# Altium footprint library KF2EDGK.PcbLib: 86 footprints (part 2 of 6)
Each footprint in its own frame and in the unit in brackets; x right, y up, seen from the top. Pads: shape width x height; smd on the part's side, far side on the other; paste and mask are expansions set on the pad; w line width, h text height; cw(c..) or ccw(c..) is an arc to the next point about the centre after c.
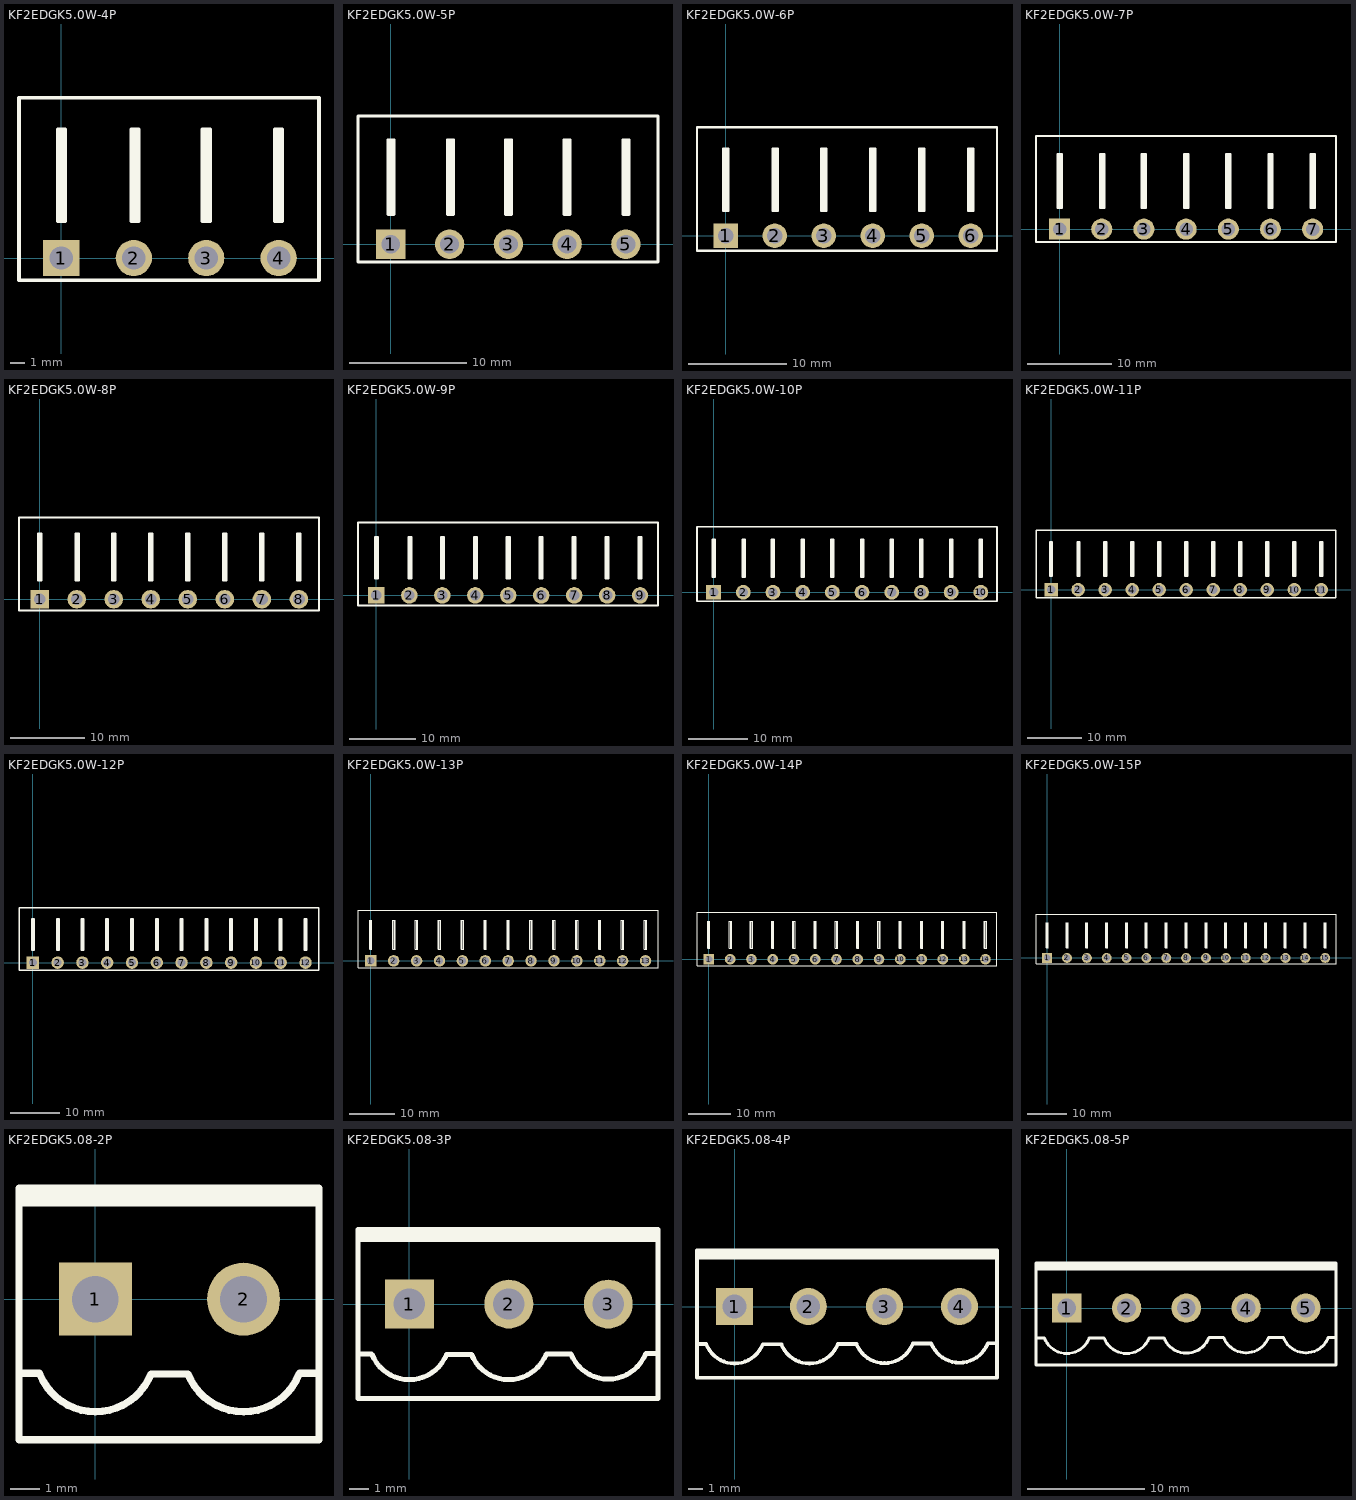
[diagram p1: the footprints below, top view; thin cyan lines are the x and y axes]

## KF2EDGK5.0W-4P [mm]
pads (4):
  rect 2.5x2.5 hole 1.6: 1(0,0)
  round 2.5 hole 1.6: 2(5,0) 3(10,0) 4(15,0)
Top Overlay:
  lines w0.254: 0,2.54 0,8.89 ; 5.08,2.54 5.08,8.89 ; 10,2.54 10,8.89 ; 15,2.54 15,8.89 ; 0,8.89 0.254,8.89 0.254,2.54 -0.254,2.54 -0.254,8.89 0,8.89 ; 5.08,8.89 5.334,8.89 5.334,2.54 4.826,2.54 4.826,8.89 5.08,8.89 ; 10,8.89 9.746,8.89 9.746,2.54 10.254,2.54 10.254,8.89 10,8.89 ; 15,8.89 15.254,8.89 15.254,2.54 14.746,2.54 14.746,8.89 15,8.89 ; -2.921,-1.524 17.78,-1.524 17.78,11.049 -2.921,11.049 -2.921,-1.524
3D body "KF2EDGK5.0-WI.STEP": height 8.5, standoff -3, extent 7.46,-0.57 12.54,10.73
3D body "KF2EDGK5.0-WI.STEP": height 8.5, standoff -3, extent -2.54,-0.57 2.54,10.73
3D body "KF2EDGK5.0-WI.STEP": height 8.5, standoff -3, extent 2.46,-0.57 7.54,10.73
3D body "KF2EDGK5.0-WI.STEP": height 8.5, standoff -3, extent 12.46,-0.57 17.54,10.73

## KF2EDGK5.0W-5P [mm]
pads (5):
  rect 2.5x2.5 hole 1.6: 1(0,0)
  round 2.5 hole 1.6: 2(5,0) 3(10,0) 4(15,0) 5(20,0)
Top Overlay:
  lines w0.254: 0,2.54 0,8.89 ; 5.08,2.54 5.08,8.89 ; 10,2.54 10,8.89 ; 15,2.54 15,8.89 ; 20,2.54 20,8.89 ; 0,8.89 -0.254,8.89 -0.254,2.54 0.254,2.54 0.254,8.89 0,8.89 ; 5.08,8.89 4.826,8.89 4.826,2.54 5.334,2.54 5.334,8.89 5.08,8.89 ; 10,8.89 10.254,8.89 10.254,2.54 9.746,2.54 9.746,8.89 10,8.89 ; 15,8.89 14.746,8.89 14.746,2.54 15.254,2.54 15.254,8.89 15,8.89 ; 20,8.89 20.254,8.89 20.254,2.54 19.746,2.54 19.746,8.89 20,8.89 ; -2.794,-1.524 -2.794,10.922 22.733,10.922 22.733,-1.524 -2.794,-1.524
3D body "KF2EDGK5.0-WI.STEP": height 8.5, standoff -3, extent 17.46,-0.57 22.54,10.73
3D body "KF2EDGK5.0-WI.STEP": height 8.5, standoff -3, extent 12.46,-0.57 17.54,10.73
3D body "KF2EDGK5.0-WI.STEP": height 8.5, standoff -3, extent 2.46,-0.57 7.54,10.73
3D body "KF2EDGK5.0-WI.STEP": height 8.5, standoff -3, extent -2.54,-0.57 2.54,10.73
3D body "KF2EDGK5.0-WI.STEP": height 8.5, standoff -3, extent 7.46,-0.57 12.54,10.73

## KF2EDGK5.0W-6P [mm]
pads (6):
  rect 2.5x2.5 hole 1.6: 1(0,0)
  round 2.5 hole 1.6: 2(5,0) 3(10,0) 4(15,0) 5(20,0) 6(25,0)
Top Overlay:
  lines w0.254: 0,2.54 0,8.89 ; 5.08,2.54 5.08,8.89 ; 10,2.54 10,8.89 ; 15,2.54 15,8.89 ; 20,2.54 20,8.89 ; 25,2.54 25,8.89 ; 0,8.89 0.254,8.89 0.254,2.54 -0.254,2.54 -0.254,8.89 0,8.89 ; 5.08,8.89 5.334,8.89 5.334,2.54 4.826,2.54 4.826,8.89 5.08,8.89 ; 10,8.89 9.746,8.89 9.746,2.54 10.254,2.54 10.254,8.89 10,8.89 ; 15,8.89 15.254,8.89 15.254,2.54 14.746,2.54 14.746,8.89 15,8.89 ; 20,8.89 19.746,8.89 19.746,2.54 20.254,2.54 20.254,8.89 20,8.89 ; 25,8.89 25.254,8.89 25.254,2.54 24.746,2.54 24.746,8.89 25,8.89 ; -2.921,-1.524 27.686,-1.524 27.686,11.049 -2.921,11.049 -2.921,-1.524
3D body "KF2EDGK5.0-WI.STEP": height 8.5, standoff -3, extent 17.46,-0.57 22.54,10.73
3D body "KF2EDGK5.0-WI.STEP": height 8.5, standoff -3, extent 12.46,-0.57 17.54,10.73
3D body "KF2EDGK5.0-WI.STEP": height 8.5, standoff -3, extent 22.46,-0.57 27.54,10.73
3D body "KF2EDGK5.0-WI.STEP": height 8.5, standoff -3, extent 2.46,-0.57 7.54,10.73
3D body "KF2EDGK5.0-WI.STEP": height 8.5, standoff -3, extent -2.54,-0.57 2.54,10.73
3D body "KF2EDGK5.0-WI.STEP": height 8.5, standoff -3, extent 7.46,-0.57 12.54,10.73

## KF2EDGK5.0W-7P [mm]
pads (7):
  rect 2.5x2.5 hole 1.6: 1(0,0)
  round 2.5 hole 1.6: 2(5,0) 3(10,0) 4(15,0) 5(20,0) 6(25,0) 7(30,0)
Top Overlay:
  lines w0.254: 0,2.54 0,8.89 ; 5.08,2.54 5.08,8.89 ; 10,2.54 10,8.89 ; 15,2.54 15,8.89 ; 20,2.54 20,8.89 ; 25,2.54 25,8.89 ; 30,2.54 30,8.89 ; 0,8.89 -0.254,8.89 -0.254,2.54 0.254,2.54 0.254,8.89 0,8.89 ; 5.08,8.89 4.826,8.89 4.826,2.54 5.334,2.54 5.334,8.89 5.08,8.89 ; 10,8.89 10.254,8.89 10.254,2.54 9.746,2.54 9.746,8.89 10,8.89 ; 15,8.89 14.746,8.89 14.746,2.54 15.254,2.54 15.254,8.89 15,8.89 ; 20,8.89 20.254,8.89 20.254,2.54 19.746,2.54 19.746,8.89 20,8.89 ; 25,8.89 24.746,8.89 24.746,2.54 25.254,2.54 25.254,8.89 25,8.89 ; 30,8.89 30.254,8.89 30.254,2.54 29.746,2.54 29.746,8.89 30,8.89 ; -2.794,-1.524 -2.794,11.049 32.766,11.049 32.766,-1.524 -2.794,-1.524
3D body "KF2EDGK5.0-WI.STEP": height 8.5, standoff -3, extent 7.46,-0.57 12.54,10.73
3D body "KF2EDGK5.0-WI.STEP": height 8.5, standoff -3, extent -2.54,-0.57 2.54,10.73
3D body "KF2EDGK5.0-WI.STEP": height 8.5, standoff -3, extent 2.46,-0.57 7.54,10.73
3D body "KF2EDGK5.0-WI.STEP": height 8.5, standoff -3, extent 22.46,-0.57 27.54,10.73
3D body "KF2EDGK5.0-WI.STEP": height 8.5, standoff -3, extent 12.46,-0.57 17.54,10.73
3D body "KF2EDGK5.0-WI.STEP": height 8.5, standoff -3, extent 17.46,-0.57 22.54,10.73
3D body "KF2EDGK5.0-WI.STEP": height 8.5, standoff -3, extent 27.46,-0.57 32.54,10.73

## KF2EDGK5.0W-8P [mm]
pads (8):
  rect 2.5x2.5 hole 1.6: 1(0,0)
  round 2.5 hole 1.6: 2(5,0) 3(10,0) 4(15,0) 5(20,0) 6(25,0) 7(30,0) 8(35,0)
Top Overlay:
  lines w0.254: 0,2.54 0,8.89 ; 5.08,2.54 5.08,8.89 ; 10,2.54 10,8.89 ; 15,2.54 15,8.89 ; 20,2.54 20,8.89 ; 25,2.54 25,8.89 ; 30,2.54 30,8.89 ; 35,2.54 35,8.89 ; 0,8.89 0.254,8.89 0.254,2.54 -0.254,2.54 -0.254,8.89 0,8.89 ; 5.08,8.89 5.334,8.89 5.334,2.54 4.826,2.54 4.826,8.89 5.08,8.89 ; 10,8.89 9.746,8.89 9.746,2.54 10.254,2.54 10.254,8.89 10,8.89 ; 15,8.89 15.254,8.89 15.254,2.54 14.746,2.54 14.746,8.89 15,8.89 ; 20,8.89 19.746,8.89 19.746,2.54 20.254,2.54 20.254,8.89 20,8.89 ; 25,8.89 25.254,8.89 25.254,2.54 24.746,2.54 24.746,8.89 25,8.89 ; 30,8.89 29.746,8.89 29.746,2.54 30.254,2.54 30.254,8.89 30,8.89 ; 35,8.89 35.254,8.89 35.254,2.54 34.746,2.54 34.746,8.89 35,8.89 ; -2.794,-1.524 37.719,-1.524 37.719,11.049 -2.794,11.049 -2.794,-1.524
3D body "KF2EDGK5.0-WI.STEP": height 8.5, standoff -3, extent 7.46,-0.57 12.54,10.73
3D body "KF2EDGK5.0-WI.STEP": height 8.5, standoff -3, extent -2.54,-0.57 2.54,10.73
3D body "KF2EDGK5.0-WI.STEP": height 8.5, standoff -3, extent 2.46,-0.57 7.54,10.73
3D body "KF2EDGK5.0-WI.STEP": height 8.5, standoff -3, extent 22.46,-0.57 27.54,10.73
3D body "KF2EDGK5.0-WI.STEP": height 8.5, standoff -3, extent 12.46,-0.57 17.54,10.73
3D body "KF2EDGK5.0-WI.STEP": height 8.5, standoff -3, extent 17.46,-0.57 22.54,10.73
3D body "KF2EDGK5.0-WI.STEP": height 8.5, standoff -3, extent 27.46,-0.57 32.54,10.73
3D body "KF2EDGK5.0-WI.STEP": height 8.5, standoff -3, extent 32.46,-0.57 37.54,10.73

## KF2EDGK5.0W-9P [mm]
pads (9):
  rect 2.5x2.5 hole 1.6: 1(0,0)
  round 2.5 hole 1.6: 2(5,0) 3(10,0) 4(15,0) 5(20,0) 6(25,0) 7(30,0) 8(35,0) 9(40,0)
Top Overlay:
  lines w0.254: 0,2.54 0,8.89 ; 5.08,2.54 5.08,8.89 ; 10,2.54 10,8.89 ; 15,2.54 15,8.89 ; 20,2.54 20,8.89 ; 25,2.54 25,8.89 ; 30,2.54 30,8.89 ; 35,2.54 35,8.89 ; 40,2.54 40,8.89 ; 0,8.89 -0.254,8.89 -0.254,2.54 0.254,2.54 0.254,8.89 0,8.89 ; 5.08,8.89 4.826,8.89 4.826,2.54 5.334,2.54 5.334,8.89 5.08,8.89 ; 10,8.89 10.254,8.89 10.254,2.54 9.746,2.54 9.746,8.89 10,8.89 ; 15,8.89 14.746,8.89 14.746,2.54 15.254,2.54 15.254,8.89 15,8.89 ; 20,8.89 20.254,8.89 20.254,2.54 19.746,2.54 19.746,8.89 20,8.89 ; 25,8.89 24.746,8.89 24.746,2.54 25.254,2.54 25.254,8.89 25,8.89 ; 30,8.89 30.254,8.89 30.254,2.54 29.746,2.54 29.746,8.89 30,8.89 ; 35,8.89 34.746,8.89 34.746,2.54 35.254,2.54 35.254,8.89 35,8.89 ; 40,8.89 40.254,8.89 40.254,2.54 39.746,2.54 39.746,8.89 40,8.89 ; -2.794,-1.524 -2.794,11.049 37.719,11.049 42.719,11.049 42.719,-1.524 37.719,-1.524 -2.794,-1.524
3D body "KF2EDGK5.0-WI.STEP": height 8.5, standoff -3, extent 7.46,-0.57 12.54,10.73
3D body "KF2EDGK5.0-WI.STEP": height 8.5, standoff -3, extent -2.54,-0.57 2.54,10.73
3D body "KF2EDGK5.0-WI.STEP": height 8.5, standoff -3, extent 2.46,-0.57 7.54,10.73
3D body "KF2EDGK5.0-WI.STEP": height 8.5, standoff -3, extent 22.46,-0.57 27.54,10.73
3D body "KF2EDGK5.0-WI.STEP": height 8.5, standoff -3, extent 12.46,-0.57 17.54,10.73
3D body "KF2EDGK5.0-WI.STEP": height 8.5, standoff -3, extent 17.46,-0.57 22.54,10.73
3D body "KF2EDGK5.0-WI.STEP": height 8.5, standoff -3, extent 37.46,-0.57 42.54,10.73
3D body "KF2EDGK5.0-WI.STEP": height 8.5, standoff -3, extent 27.46,-0.57 32.54,10.73
3D body "KF2EDGK5.0-WI.STEP": height 8.5, standoff -3, extent 32.46,-0.57 37.54,10.73

## KF2EDGK5.0W-10P [mm]
pads (10):
  rect 2.5x2.5 hole 1.6: 1(0,0)
  round 2.5 hole 1.6: 2(5,0) 3(10,0) 4(15,0) 5(20,0) 6(25,0) 7(30,0) 8(35,0) 9(40,0) 10(45,0)
Top Overlay:
  lines w0.254: 0,2.54 0,8.89 ; 5.08,2.54 5.08,8.89 ; 10,2.54 10,8.89 ; 15,2.54 15,8.89 ; 20,2.54 20,8.89 ; 25,2.54 25,8.89 ; 30,2.54 30,8.89 ; 35,2.54 35,8.89 ; 40,2.54 40,8.89 ; 45,2.54 45,8.89 ; 0,8.89 0.254,8.89 0.254,2.54 -0.254,2.54 -0.254,8.89 0,8.89 ; 5.08,8.89 5.334,8.89 5.334,2.54 4.826,2.54 4.826,8.89 5.08,8.89 ; 10,8.89 9.746,8.89 9.746,2.54 10.254,2.54 10.254,8.89 10,8.89 ; 15,8.89 15.254,8.89 15.254,2.54 14.746,2.54 14.746,8.89 15,8.89 ; 20,8.89 19.746,8.89 19.746,2.54 20.254,2.54 20.254,8.89 20,8.89 ; 25,8.89 25.254,8.89 25.254,2.54 24.746,2.54 24.746,8.89 25,8.89 ; 30,8.89 29.746,8.89 29.746,2.54 30.254,2.54 30.254,8.89 30,8.89 ; 35,8.89 35.254,8.89 35.254,2.54 34.746,2.54 34.746,8.89 35,8.89 ; 40,8.89 39.746,8.89 39.746,2.54 40.254,2.54 40.254,8.89 40,8.89 ; 45,8.89 45.254,8.89 45.254,2.54 44.746,2.54 44.746,8.89 45,8.89 ; -2.794,-1.524 37.719,-1.524 42.719,-1.524 47.719,-1.524 47.719,11.049 42.719,11.049 37.719,11.049 -2.794,11.049 -2.794,-1.524
3D body "KF2EDGK5.0-WI.STEP": height 8.5, standoff -3, extent 42.46,-0.57 47.54,10.73
3D body "KF2EDGK5.0-WI.STEP": height 8.5, standoff -3, extent 32.46,-0.57 37.54,10.73
3D body "KF2EDGK5.0-WI.STEP": height 8.5, standoff -3, extent 27.46,-0.57 32.54,10.73
3D body "KF2EDGK5.0-WI.STEP": height 8.5, standoff -3, extent 37.46,-0.57 42.54,10.73
3D body "KF2EDGK5.0-WI.STEP": height 8.5, standoff -3, extent 17.46,-0.57 22.54,10.73
3D body "KF2EDGK5.0-WI.STEP": height 8.5, standoff -3, extent 12.46,-0.57 17.54,10.73
3D body "KF2EDGK5.0-WI.STEP": height 8.5, standoff -3, extent 22.46,-0.57 27.54,10.73
3D body "KF2EDGK5.0-WI.STEP": height 8.5, standoff -3, extent 2.46,-0.57 7.54,10.73
3D body "KF2EDGK5.0-WI.STEP": height 8.5, standoff -3, extent -2.54,-0.57 2.54,10.73
3D body "KF2EDGK5.0-WI.STEP": height 8.5, standoff -3, extent 7.46,-0.57 12.54,10.73

## KF2EDGK5.0W-11P [mm]
pads (11):
  rect 2.5x2.5 hole 1.6: 1(0,0)
  round 2.5 hole 1.6: 2(5,0) 3(10,0) 4(15,0) 5(20,0) 6(25,0) 7(30,0) 8(35,0) 9(40,0) 10(45,0) 11(50,0)
Top Overlay:
  lines w0.254: 0,2.54 0,8.89 ; 5.08,2.54 5.08,8.89 ; 10,2.54 10,8.89 ; 15,2.54 15,8.89 ; 20,2.54 20,8.89 ; 25,2.54 25,8.89 ; 30,2.54 30,8.89 ; 35,2.54 35,8.89 ; 40,2.54 40,8.89 ; 45,2.54 45,8.89 ; 50,2.54 50,8.89 ; 0,8.89 -0.254,8.89 -0.254,2.54 0.254,2.54 0.254,8.89 0,8.89 ; 5.08,8.89 4.826,8.89 4.826,2.54 5.334,2.54 5.334,8.89 5.08,8.89 ; 10,8.89 10.254,8.89 10.254,2.54 9.746,2.54 9.746,8.89 10,8.89 ; 15,8.89 14.746,8.89 14.746,2.54 15.254,2.54 15.254,8.89 15,8.89 ; 20,8.89 20.254,8.89 20.254,2.54 19.746,2.54 19.746,8.89 20,8.89 ; 25,8.89 24.746,8.89 24.746,2.54 25.254,2.54 25.254,8.89 25,8.89 ; 30,8.89 30.254,8.89 30.254,2.54 29.746,2.54 29.746,8.89 30,8.89 ; 35,8.89 34.746,8.89 34.746,2.54 35.254,2.54 35.254,8.89 35,8.89 ; 40,8.89 40.254,8.89 40.254,2.54 39.746,2.54 39.746,8.89 40,8.89 ; 45,8.89 44.746,8.89 44.746,2.54 45.254,2.54 45.254,8.89 45,8.89 ; 50,8.89 50.254,8.89 50.254,2.54 49.746,2.54 49.746,8.89 50,8.89 ; -2.794,-1.524 -2.794,11.049 37.719,11.049 42.719,11.049 47.719,11.049 52.719,11.049 52.719,-1.524 47.719,-1.524 42.719,-1.524 37.719,-1.524 -2.794,-1.524
3D body "KF2EDGK5.0-WI.STEP": height 8.5, standoff -3, extent 7.46,-0.57 12.54,10.73
3D body "KF2EDGK5.0-WI.STEP": height 8.5, standoff -3, extent -2.54,-0.57 2.54,10.73
3D body "KF2EDGK5.0-WI.STEP": height 8.5, standoff -3, extent 2.46,-0.57 7.54,10.73
3D body "KF2EDGK5.0-WI.STEP": height 8.5, standoff -3, extent 22.46,-0.57 27.54,10.73
3D body "KF2EDGK5.0-WI.STEP": height 8.5, standoff -3, extent 12.46,-0.57 17.54,10.73
3D body "KF2EDGK5.0-WI.STEP": height 8.5, standoff -3, extent 17.46,-0.57 22.54,10.73
3D body "KF2EDGK5.0-WI.STEP": height 8.5, standoff -3, extent 37.46,-0.57 42.54,10.73
3D body "KF2EDGK5.0-WI.STEP": height 8.5, standoff -3, extent 27.46,-0.57 32.54,10.73
3D body "KF2EDGK5.0-WI.STEP": height 8.5, standoff -3, extent 32.46,-0.57 37.54,10.73
3D body "KF2EDGK5.0-WI.STEP": height 8.5, standoff -3, extent 42.46,-0.57 47.54,10.73
3D body "KF2EDGK5.0-WI.STEP": height 8.5, standoff -3, extent 47.46,-0.57 52.54,10.73

## KF2EDGK5.0W-12P [mm]
pads (12):
  rect 2.5x2.5 hole 1.6: 1(0,0)
  round 2.5 hole 1.6: 2(5,0) 3(10,0) 4(15,0) 5(20,0) 6(25,0) 7(30,0) 8(35,0) 9(40,0) 10(45,0) 11(50,0) 12(55,0)
Top Overlay:
  lines w0.254: 0,2.54 0,8.89 ; 5.08,2.54 5.08,8.89 ; 10,2.54 10,8.89 ; 15,2.54 15,8.89 ; 20,2.54 20,8.89 ; 25,2.54 25,8.89 ; 30,2.54 30,8.89 ; 35,2.54 35,8.89 ; 40,2.54 40,8.89 ; 45,2.54 45,8.89 ; 50,2.54 50,8.89 ; 55,2.54 55,8.89 ; 0,8.89 -0.254,8.89 -0.254,2.54 0.254,2.54 0.254,8.89 0,8.89 ; 5.08,8.89 4.826,8.89 4.826,2.54 5.334,2.54 5.334,8.89 5.08,8.89 ; 10,8.89 10.254,8.89 10.254,2.54 9.746,2.54 9.746,8.89 10,8.89 ; 15,8.89 14.746,8.89 14.746,2.54 15.254,2.54 15.254,8.89 15,8.89 ; 20,8.89 20.254,8.89 20.254,2.54 19.746,2.54 19.746,8.89 20,8.89 ; 25,8.89 24.746,8.89 24.746,2.54 25.254,2.54 25.254,8.89 25,8.89 ; 30,8.89 30.254,8.89 30.254,2.54 29.746,2.54 29.746,8.89 30,8.89 ; 35,8.89 34.746,8.89 34.746,2.54 35.254,2.54 35.254,8.89 35,8.89 ; 40,8.89 40.254,8.89 40.254,2.54 39.746,2.54 39.746,8.89 40,8.89 ; 45,8.89 44.746,8.89 44.746,2.54 45.254,2.54 45.254,8.89 45,8.89 ; 50,8.89 50.254,8.89 50.254,2.54 49.746,2.54 49.746,8.89 50,8.89 ; 55,8.89 54.746,8.89 54.746,2.54 55.254,2.54 55.254,8.89 55,8.89 ; -2.794,-1.524 -2.794,11.049 37.719,11.049 42.719,11.049 47.719,11.049 52.719,11.049 57.719,11.049 57.719,-1.524 52.719,-1.524 47.719,-1.524 42.719,-1.524 37.719,-1.524 -2.794,-1.524
3D body "KF2EDGK5.0-WI.STEP": height 8.5, standoff -3, extent 7.46,-0.57 12.54,10.73
3D body "KF2EDGK5.0-WI.STEP": height 8.5, standoff -3, extent -2.54,-0.57 2.54,10.73
3D body "KF2EDGK5.0-WI.STEP": height 8.5, standoff -3, extent 2.46,-0.57 7.54,10.73
3D body "KF2EDGK5.0-WI.STEP": height 8.5, standoff -3, extent 22.46,-0.57 27.54,10.73
3D body "KF2EDGK5.0-WI.STEP": height 8.5, standoff -3, extent 12.46,-0.57 17.54,10.73
3D body "KF2EDGK5.0-WI.STEP": height 8.5, standoff -3, extent 17.46,-0.57 22.54,10.73
3D body "KF2EDGK5.0-WI.STEP": height 8.5, standoff -3, extent 37.46,-0.57 42.54,10.73
3D body "KF2EDGK5.0-WI.STEP": height 8.5, standoff -3, extent 27.46,-0.57 32.54,10.73
3D body "KF2EDGK5.0-WI.STEP": height 8.5, standoff -3, extent 32.46,-0.57 37.54,10.73
3D body "KF2EDGK5.0-WI.STEP": height 8.5, standoff -3, extent 52.46,-0.57 57.54,10.73
3D body "KF2EDGK5.0-WI.STEP": height 8.5, standoff -3, extent 42.46,-0.57 47.54,10.73
3D body "KF2EDGK5.0-WI.STEP": height 8.5, standoff -3, extent 47.46,-0.57 52.54,10.73

## KF2EDGK5.0W-13P [mm]
pads (13):
  rect 2.5x2.5 hole 1.6: 1(0,0)
  round 2.5 hole 1.6: 2(5,0) 3(10,0) 4(15,0) 5(20,0) 6(25,0) 7(30,0) 8(35,0) 9(40,0) 10(45,0) 11(50,0) 12(55,0) 13(60,0)
Top Overlay:
  lines w0.254: 0,2.54 0,8.89 ; 5.08,2.54 5.08,8.89 ; 10,2.54 10,8.89 ; 15,2.54 15,8.89 ; 20,2.54 20,8.89 ; 25,2.54 25,8.89 ; 30,2.54 30,8.89 ; 35,2.54 35,8.89 ; 40,2.54 40,8.89 ; 45,2.54 45,8.89 ; 50,2.54 50,8.89 ; 55,2.54 55,8.89 ; 60,2.54 60,8.89 ; 0,8.89 -0.254,8.89 -0.254,2.54 0.254,2.54 0.254,8.89 0,8.89 ; 5.08,8.89 4.826,8.89 4.826,2.54 5.334,2.54 5.334,8.89 5.08,8.89 ; 10,8.89 10.254,8.89 10.254,2.54 9.746,2.54 9.746,8.89 10,8.89 ; 15,8.89 14.746,8.89 14.746,2.54 15.254,2.54 15.254,8.89 15,8.89 ; 20,8.89 20.254,8.89 20.254,2.54 19.746,2.54 19.746,8.89 20,8.89 ; 25,8.89 24.746,8.89 24.746,2.54 25.254,2.54 25.254,8.89 25,8.89 ; 30,8.89 30.254,8.89 30.254,2.54 29.746,2.54 29.746,8.89 30,8.89 ; 35,8.89 34.746,8.89 34.746,2.54 35.254,2.54 35.254,8.89 35,8.89 ; 40,8.89 40.254,8.89 40.254,2.54 39.746,2.54 39.746,8.89 40,8.89 ; 45,8.89 44.746,8.89 44.746,2.54 45.254,2.54 45.254,8.89 45,8.89 ; 50,8.89 50.254,8.89 50.254,2.54 49.746,2.54 49.746,8.89 50,8.89 ; 55,8.89 54.746,8.89 54.746,2.54 55.254,2.54 ; 55,8.89 55.254,8.89 ; 55.254,2.54 55.254,8.89 ; 55.254,2.54 55.254,8.89 ; 60,8.89 60.254,8.89 60.254,2.54 59.746,2.54 59.746,8.89 60,8.89 ; -2.794,-1.524 -2.794,11.049 37.719,11.049 42.719,11.049 47.719,11.049 52.719,11.049 57.719,11.049 62.719,11.049 62.719,-1.524 57.719,-1.524 52.719,-1.524 47.719,-1.524 42.719,-1.524 37.719,-1.524 -2.794,-1.524
3D body "KF2EDGK5.0-WI.STEP": height 8.5, standoff -3, extent 57.46,-0.57 62.54,10.73
3D body "KF2EDGK5.0-WI.STEP": height 8.5, standoff -3, extent 47.46,-0.57 52.54,10.73
3D body "KF2EDGK5.0-WI.STEP": height 8.5, standoff -3, extent 42.46,-0.57 47.54,10.73
3D body "KF2EDGK5.0-WI.STEP": height 8.5, standoff -3, extent 52.46,-0.57 57.54,10.73
3D body "KF2EDGK5.0-WI.STEP": height 8.5, standoff -3, extent 32.46,-0.57 37.54,10.73
3D body "KF2EDGK5.0-WI.STEP": height 8.5, standoff -3, extent 27.46,-0.57 32.54,10.73
3D body "KF2EDGK5.0-WI.STEP": height 8.5, standoff -3, extent 37.46,-0.57 42.54,10.73
3D body "KF2EDGK5.0-WI.STEP": height 8.5, standoff -3, extent 17.46,-0.57 22.54,10.73
3D body "KF2EDGK5.0-WI.STEP": height 8.5, standoff -3, extent 12.46,-0.57 17.54,10.73
3D body "KF2EDGK5.0-WI.STEP": height 8.5, standoff -3, extent 22.46,-0.57 27.54,10.73
3D body "KF2EDGK5.0-WI.STEP": height 8.5, standoff -3, extent 2.46,-0.57 7.54,10.73
3D body "KF2EDGK5.0-WI.STEP": height 8.5, standoff -3, extent -2.54,-0.57 2.54,10.73
3D body "KF2EDGK5.0-WI.STEP": height 8.5, standoff -3, extent 7.46,-0.57 12.54,10.73

## KF2EDGK5.0W-14P [mm]
pads (14):
  rect 2.5x2.5 hole 1.6: 1(0,0)
  round 2.5 hole 1.6: 2(5,0) 3(10,0) 4(15,0) 5(20,0) 6(25,0) 7(30,0) 8(35,0) 9(40,0) 10(45,0) 11(50,0) 12(55,0) 13(60,0) 14(65,0)
Top Overlay:
  lines w0.254: 0,2.54 0,8.89 ; 5.08,2.54 5.08,8.89 ; 10,2.54 10,8.89 ; 15,2.54 15,8.89 ; 20,2.54 20,8.89 ; 25,2.54 25,8.89 ; 30,2.54 30,8.89 ; 35,2.54 35,8.89 ; 40,2.54 40,8.89 ; 45,2.54 45,8.89 ; 50,2.54 50,8.89 ; 55,2.54 55,8.89 ; 60,2.54 60,8.89 ; 65,2.54 65,8.89 ; 0,8.89 0.254,8.89 0.254,2.54 -0.254,2.54 -0.254,8.89 0,8.89 ; 5.08,8.89 5.334,8.89 5.334,2.54 4.826,2.54 4.826,8.89 5.08,8.89 ; 10,8.89 9.746,8.89 9.746,2.54 10.254,2.54 10.254,8.89 10,8.89 ; 15,8.89 15.254,8.89 15.254,2.54 14.746,2.54 14.746,8.89 15,8.89 ; 20,8.89 19.746,8.89 19.746,2.54 20.254,2.54 20.254,8.89 20,8.89 ; 25,8.89 25.254,8.89 25.254,2.54 24.746,2.54 24.746,8.89 25,8.89 ; 30,8.89 29.746,8.89 29.746,2.54 30.254,2.54 30.254,8.89 30,8.89 ; 35,8.89 35.254,8.89 35.254,2.54 34.746,2.54 34.746,8.89 35,8.89 ; 40,8.89 39.746,8.89 39.746,2.54 40.254,2.54 40.254,8.89 40,8.89 ; 45,8.89 45.254,8.89 45.254,2.54 44.746,2.54 44.746,8.89 45,8.89 ; 50,8.89 49.746,8.89 49.746,2.54 50.254,2.54 50.254,8.89 50,8.89 ; 55,8.89 55.254,8.89 ; 55,8.89 54.746,8.89 54.746,2.54 55.254,2.54 ; 55.254,2.54 55.254,8.89 ; 55.254,2.54 55.254,8.89 ; 60,8.89 59.746,8.89 59.746,2.54 60.254,2.54 60.254,8.89 60,8.89 ; 65,8.89 65.254,8.89 65.254,2.54 64.746,2.54 64.746,8.89 65,8.89 ; -2.794,-1.524 37.719,-1.524 42.719,-1.524 47.719,-1.524 52.719,-1.524 57.719,-1.524 62.719,-1.524 67.719,-1.524 67.719,11.049 62.719,11.049 57.719,11.049 52.719,11.049 47.719,11.049 42.719,11.049 37.719,11.049 -2.794,11.049 -2.794,-1.524
3D body "KF2EDGK5.0-WI.STEP": height 8.5, standoff -3, extent 7.46,-0.57 12.54,10.73
3D body "KF2EDGK5.0-WI.STEP": height 8.5, standoff -3, extent -2.54,-0.57 2.54,10.73
3D body "KF2EDGK5.0-WI.STEP": height 8.5, standoff -3, extent 2.46,-0.57 7.54,10.73
3D body "KF2EDGK5.0-WI.STEP": height 8.5, standoff -3, extent 22.46,-0.57 27.54,10.73
3D body "KF2EDGK5.0-WI.STEP": height 8.5, standoff -3, extent 12.46,-0.57 17.54,10.73
3D body "KF2EDGK5.0-WI.STEP": height 8.5, standoff -3, extent 17.46,-0.57 22.54,10.73
3D body "KF2EDGK5.0-WI.STEP": height 8.5, standoff -3, extent 37.46,-0.57 42.54,10.73
3D body "KF2EDGK5.0-WI.STEP": height 8.5, standoff -3, extent 27.46,-0.57 32.54,10.73
3D body "KF2EDGK5.0-WI.STEP": height 8.5, standoff -3, extent 32.46,-0.57 37.54,10.73
3D body "KF2EDGK5.0-WI.STEP": height 8.5, standoff -3, extent 52.46,-0.57 57.54,10.73
3D body "KF2EDGK5.0-WI.STEP": height 8.5, standoff -3, extent 42.46,-0.57 47.54,10.73
3D body "KF2EDGK5.0-WI.STEP": height 8.5, standoff -3, extent 47.46,-0.57 52.54,10.73
3D body "KF2EDGK5.0-WI.STEP": height 8.5, standoff -3, extent 57.46,-0.57 62.54,10.73
3D body "KF2EDGK5.0-WI.STEP": height 8.5, standoff -3, extent 62.46,-0.57 67.54,10.73

## KF2EDGK5.0W-15P [mm]
pads (15):
  rect 2.5x2.5 hole 1.6: 1(0,0)
  round 2.5 hole 1.6: 2(5,0) 3(10,0) 4(15,0) 5(20,0) 6(25,0) 7(30,0) 8(35,0) 9(40,0) 10(45,0) 11(50,0) 12(55,0) 13(60,0) 14(65,0) 15(70,0)
Top Overlay:
  lines w0.254: 0,2.54 0,8.89 ; 5.08,2.54 5.08,8.89 ; 10,2.54 10,8.89 ; 15,2.54 15,8.89 ; 20,2.54 20,8.89 ; 25,2.54 25,8.89 ; 30,2.54 30,8.89 ; 35,2.54 35,8.89 ; 40,2.54 40,8.89 ; 45,2.54 45,8.89 ; 50,2.54 50,8.89 ; 55,2.54 55,8.89 ; 60,2.54 60,8.89 ; 65,2.54 65,8.89 ; 70,2.54 70,8.89 ; 0,8.89 0.254,8.89 0.254,2.54 -0.254,2.54 -0.254,8.89 0,8.89 ; 5.08,8.89 5.334,8.89 5.334,2.54 4.826,2.54 4.826,8.89 5.08,8.89 ; 10,8.89 9.746,8.89 9.746,2.54 10.254,2.54 10.254,8.89 10,8.89 ; 15,8.89 15.254,8.89 15.254,2.54 14.746,2.54 14.746,8.89 15,8.89 ; 20,8.89 19.746,8.89 19.746,2.54 20.254,2.54 20.254,8.89 20,8.89 ; 25,8.89 25.254,8.89 25.254,2.54 24.746,2.54 24.746,8.89 25,8.89 ; 30,8.89 29.746,8.89 29.746,2.54 30.254,2.54 30.254,8.89 30,8.89 ; 35,8.89 35.254,8.89 35.254,2.54 34.746,2.54 34.746,8.89 35,8.89 ; 40,8.89 39.746,8.89 39.746,2.54 40.254,2.54 40.254,8.89 40,8.89 ; 45,8.89 45.254,8.89 45.254,2.54 44.746,2.54 44.746,8.89 45,8.89 ; 50,8.89 49.746,8.89 49.746,2.54 50.254,2.54 50.254,8.89 50,8.89 ; 55,8.89 55.254,8.89 ; 55,8.89 54.746,8.89 54.746,2.54 55.254,2.54 ; 55.254,2.54 55.254,8.89 ; 55.254,2.54 55.254,8.89 ; 60,8.89 59.746,8.89 59.746,2.54 60.254,2.54 60.254,8.89 60,8.89 ; 65,8.89 65.254,8.89 65.254,2.54 64.746,2.54 64.746,8.89 65,8.89 ; 70,8.89 69.746,8.89 69.746,2.54 70.254,2.54 70.254,8.89 70,8.89 ; -2.794,-1.524 37.719,-1.524 42.719,-1.524 47.719,-1.524 52.719,-1.524 57.719,-1.524 62.719,-1.524 67.719,-1.524 72.719,-1.524 72.719,11.049 67.719,11.049 62.719,11.049 57.719,11.049 52.719,11.049 47.719,11.049 42.719,11.049 37.719,11.049 -2.794,11.049 -2.794,-1.524
3D body "KF2EDGK5.0-WI.STEP": height 8.5, standoff -3, extent 7.46,-0.57 12.54,10.73
3D body "KF2EDGK5.0-WI.STEP": height 8.5, standoff -3, extent -2.54,-0.57 2.54,10.73
3D body "KF2EDGK5.0-WI.STEP": height 8.5, standoff -3, extent 2.46,-0.57 7.54,10.73
3D body "KF2EDGK5.0-WI.STEP": height 8.5, standoff -3, extent 22.46,-0.57 27.54,10.73
3D body "KF2EDGK5.0-WI.STEP": height 8.5, standoff -3, extent 12.46,-0.57 17.54,10.73
3D body "KF2EDGK5.0-WI.STEP": height 8.5, standoff -3, extent 17.46,-0.57 22.54,10.73
3D body "KF2EDGK5.0-WI.STEP": height 8.5, standoff -3, extent 37.46,-0.57 42.54,10.73
3D body "KF2EDGK5.0-WI.STEP": height 8.5, standoff -3, extent 27.46,-0.57 32.54,10.73
3D body "KF2EDGK5.0-WI.STEP": height 8.5, standoff -3, extent 32.46,-0.57 37.54,10.73
3D body "KF2EDGK5.0-WI.STEP": height 8.5, standoff -3, extent 52.46,-0.57 57.54,10.73
3D body "KF2EDGK5.0-WI.STEP": height 8.5, standoff -3, extent 42.46,-0.57 47.54,10.73
3D body "KF2EDGK5.0-WI.STEP": height 8.5, standoff -3, extent 47.46,-0.57 52.54,10.73
3D body "KF2EDGK5.0-WI.STEP": height 8.5, standoff -3, extent 67.46,-0.57 72.54,10.73
3D body "KF2EDGK5.0-WI.STEP": height 8.5, standoff -3, extent 57.46,-0.57 62.54,10.73
3D body "KF2EDGK5.0-WI.STEP": height 8.5, standoff -3, extent 62.46,-0.57 67.54,10.73

## KF2EDGK5.08-2P [mm]
pads (2):
  rect 2.5x2.5 hole 1.6: 1(0,0)
  round 2.5 hole 1.6: 2(5.08,0)
Top Overlay:
  lines w0.254: -2.62,3.302 7.667,3.302 ; -2.62,3.556 7.667,3.556 ; -2.54,-2.54 -1.93,-2.54 ; -1.905,-2.565 ccw(c0,-1.812) 1.905,-2.565 2.54,-2.565 3.175,-2.565 ccw(c5.08,-1.812) 6.985,-2.565 ; 7.01,-2.54 7.62,-2.54 ; -2.62,-4.826 -2.62,3.81 7.667,3.81 7.667,-4.826 -2.62,-4.826
3D body "KF2EDGK5.08-LI.STEP": height 11.25, standoff -2.95, extent 2.54,-4.758 7.62,3.742
3D body "KF2EDGK5.08-LI.STEP": height 11.25, standoff -2.95, extent -2.54,-4.758 2.54,3.742

## KF2EDGK5.08-3P [mm]
pads (3):
  rect 2.5x2.5 hole 1.6: 1(0,0)
  round 2.5 hole 1.6: 2(5.08,0) 3(10.16,0)
Top Overlay:
  lines w0.254: -2.62,3.302 12.7,3.302 ; -2.62,3.556 12.7,3.556 ; -2.54,-2.54 -1.93,-2.54 ; -1.905,-2.565 ccw(c0,-1.812) 1.905,-2.565 2.54,-2.565 3.175,-2.565 ccw(c5.08,-1.812) 6.985,-2.565 ; 7.01,-2.54 7.62,-2.54 8.255,-2.54 ccw(c10.16,-1.787) 12.065,-2.54 ; 12.09,-2.515 12.7,-2.515 ; -2.62,-4.826 -2.62,3.81 12.7,3.81 12.7,-4.826 -2.62,-4.826
3D body "KF2EDGK5.08-LI.STEP": height 11.25, standoff -2.95, extent 7.62,-4.758 12.7,3.742
3D body "KF2EDGK5.08-LI.STEP": height 11.25, standoff -2.95, extent -2.54,-4.758 2.54,3.742
3D body "KF2EDGK5.08-LI.STEP": height 11.25, standoff -2.95, extent 2.54,-4.758 7.62,3.742

## KF2EDGK5.08-4P [mm] "立插端"
pads (4):
  rect 2.5x2.5 hole 1.6: 1(0,0)
  round 2.5 hole 1.6: 2(5,0) 3(10.16,0) 4(15.24,0)
Top Overlay:
  lines w0.254: -2.54,-2.54 -1.93,-2.54 ; -2.54,3.302 17.78,3.302 ; -2.515,3.556 17.78,3.556 ; -1.905,-2.565 ccw(c0,-1.812) 1.905,-2.565 2.54,-2.565 3.175,-2.565 ccw(c5.08,-1.812) 6.985,-2.565 ; 7.01,-2.54 7.62,-2.54 8.255,-2.54 ccw(c10.16,-1.787) 12.065,-2.54 ; 12.09,-2.515 12.7,-2.515 13.335,-2.515 ccw(c15.24,-1.762) 17.145,-2.515 ; 17.17,-2.489 17.78,-2.489 ; -2.54,-4.826 17.78,-4.826 17.78,3.81 -2.54,3.81 -2.54,-4.826
3D body "KF2EDGK5.08-LI.STEP": height 11.25, standoff -2.95, extent 12.7,-4.758 17.78,3.742
3D body "KF2EDGK5.08-LI.STEP": height 11.25, standoff -2.95, extent 2.54,-4.758 7.62,3.742
3D body "KF2EDGK5.08-LI.STEP": height 11.25, standoff -2.95, extent -2.54,-4.758 2.54,3.742
3D body "KF2EDGK5.08-LI.STEP": height 11.25, standoff -2.95, extent 7.62,-4.758 12.7,3.742

## KF2EDGK5.08-5P [mm]
pads (5):
  rect 2.5x2.5 hole 1.6: 1(0,0)
  round 2.5 hole 1.6: 2(5.08,0) 3(10.16,0) 4(15.24,0) 5(20.32,0)
Top Overlay:
  lines w0.254: -2.62,3.302 22.885,3.302 ; -2.62,3.556 22.885,3.556 ; -2.54,-2.54 -1.93,-2.54 ; -1.905,-2.565 ccw(c0,-1.812) 1.905,-2.565 2.54,-2.565 3.175,-2.565 ccw(c5.08,-1.812) 6.985,-2.565 ; 7.01,-2.54 7.62,-2.54 8.255,-2.54 ccw(c10.16,-1.787) 12.065,-2.54 ; 12.09,-2.515 12.7,-2.515 13.335,-2.515 ccw(c15.24,-1.762) 17.145,-2.515 ; 17.17,-2.489 17.78,-2.489 18.39,-2.489 ; 18.415,-2.515 ccw(c20.32,-1.762) 22.225,-2.515 22.86,-2.515 ; -2.62,-4.826 22.885,-4.826 22.885,3.81 -2.62,3.81 -2.62,-4.826
3D body "KF2EDGK5.08-LI.STEP": height 11.25, standoff -2.95, extent 17.78,-4.758 22.86,3.742
3D body "KF2EDGK5.08-LI.STEP": height 11.25, standoff -2.95, extent 12.7,-4.758 17.78,3.742
3D body "KF2EDGK5.08-LI.STEP": height 11.25, standoff -2.95, extent 2.54,-4.758 7.62,3.742
3D body "KF2EDGK5.08-LI.STEP": height 11.25, standoff -2.95, extent -2.54,-4.758 2.54,3.742
3D body "KF2EDGK5.08-LI.STEP": height 11.25, standoff -2.95, extent 7.62,-4.758 12.7,3.742